# EAGLE library part 74HCT125D (library custom_library)
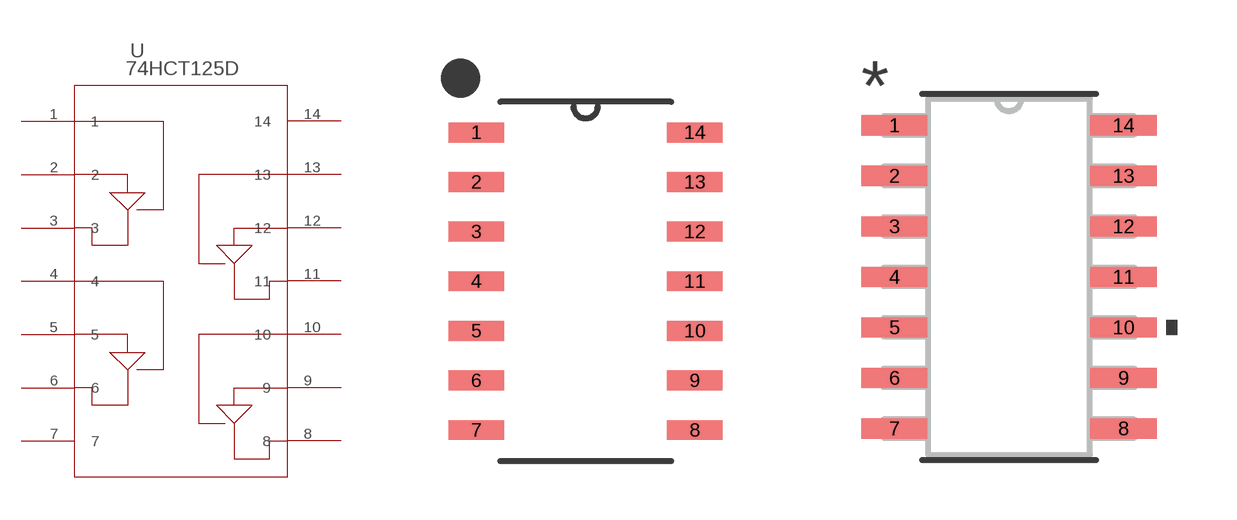
[diagram p15: symbol with the pads of SOIC14_TOS; footprints SOIC14_TOS, SOIC14_TOS-M]

Designator prefix U

## 74HCT125D (COPYRIGHT: Copyright (C) 2025 Ultra Librarian. All rights reserved.; DATASHEET: https://toshiba.semicon-storage.com/info/docget.jsp?did=37028&prodName=74HC125D; DESCRIPTION: Quad Buffer, SOIC14; MANUFACTURER_NAME: Toshiba Electronic Devices & Storage Corp.; MANUFACTURER_PART_NUMBER: 74HC125D)  [SOIC14_TOS]
1  1  in
2  2  in
3  3  out
4  4  in
5  5  in
6  6  out
7  7  pas
8  8  out
9  9  in
10  10  in
11  11  out
12  12  in
13  13  in
14  14  pwr

## 74HCT125DSOIC14_TOS-M (COPYRIGHT: Copyright (C) 2025 Ultra Librarian. All rights reserved.; DATASHEET: https://toshiba.semicon-storage.com/info/docget.jsp?did=37028&prodName=74HC125D; DESCRIPTION: Quad Buffer, SOIC14; MANUFACTURER_NAME: Toshiba Electronic Devices & Storage Corp.; MANUFACTURER_PART_NUMBER: 74HC125D)  [SOIC14_TOS-M]
Pads as for SOIC14_TOS

## 74HCT125DSOIC14_TOS-L (COPYRIGHT: Copyright (C) 2025 Ultra Librarian. All rights reserved.; DATASHEET: https://toshiba.semicon-storage.com/info/docget.jsp?did=37028&prodName=74HC125D; DESCRIPTION: Quad Buffer, SOIC14; MANUFACTURER_NAME: Toshiba Electronic Devices & Storage Corp.; MANUFACTURER_PART_NUMBER: 74HC125D)  [SOIC14_TOS-L]
Pads as for SOIC14_TOS

## Footprint SOIC14_TOS (pad centres in mm)
smd 1.422 x 0.508: 1 -2.794,3.81; 2 -2.794,2.54; 3 -2.794,1.27; 4 -2.794,0; 5 -2.794,-1.27; 6 -2.794,-2.54; 7 -2.794,-3.81; 8 2.794,-3.81; 9 2.794,-2.54; 10 2.794,-1.27; 11 2.794,0; 12 2.794,1.27; 13 2.794,2.54; 14 2.794,3.81

## Footprint SOIC14_TOS-M (pad centres in mm)
smd 1.664 x 0.508: 1 -2.877,3.81; 2 -2.877,2.54; 3 -2.877,1.27; 4 -2.877,0; 5 -2.877,-1.27; 6 -2.877,-2.54; 7 -2.877,-3.81; 8 2.877,-3.81; 9 2.877,-2.54; 10 2.877,-1.27; 11 2.877,0; 12 2.877,1.27; 13 2.877,2.54; 14 2.877,3.81

## Footprint SOIC14_TOS-L (pad centres in mm)
smd 1.118 x 0.457: 1 -2.743,3.81; 2 -2.743,2.54; 3 -2.743,1.27; 4 -2.743,0; 5 -2.743,-1.27; 6 -2.743,-2.54; 7 -2.743,-3.81; 8 2.743,-3.81; 9 2.743,-2.54; 10 2.743,-1.27; 11 2.743,0; 12 2.743,1.27; 13 2.743,2.54; 14 2.743,3.81